# Altium schematic symbol library 蓝牙模块.SchLib: 1 symbol
Pins are listed as number, name and electrical type; pins without a type are passive.

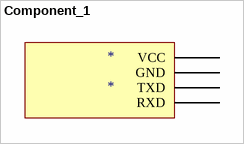
[diagram p0: symbol Component_1]

## Component_1
designator *
footprint HC-0x
pins: 16 RXD, 17 TXD, 18 GND, 19 VCC